# Altium schematic symbol library 5227222-3.SchLib: 1 symbol
Pins are listed as number, name and electrical type; pins without a type are passive.

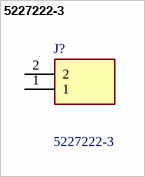
[diagram p0: symbol 5227222-3]

## 5227222-3
designator J?
Body Features: Body Material Finish Passivated | Body Plating Material Nickel | Body Material Polyester, PBT | Configuration Features: Number of Coaxial Contacts 1 | PCB Mount Orientation Vertical | Number of Positions 1 | Contact Features: RF Connector Center Contact Material Phosphor Bronze | RF Connector Center Contact Plating Thickness 889 MICIN | RF Connector Center Contact Underplating Material Nickel | RF Connector Center Contact Plating Material Gold | Dimensions: Profile Height from PCB 1.375 INCH; Manufacturer_Name: TE Connectivity; Geometry.Height: 35.57mm; Mouser Part Number: 571-5227222-3; Mouser Price/Stock: https://www.mouser.co.uk/ProductDetail/TE-Connectivity/5227222-3?qs=GSeC4G%252BEqEW87SYw9J0%252BtA%3D%3D; Manufacturer_Part_Number: 5227222-3; Datasheet Link: https://www.te.com/commerce/DocumentDelivery/DDEController?Action=srchrtrv&DocNm=1307191_BNC_Connectors&DocType=Catalog%20Section&DocLang=English&PartCntxt=5227222-3&DocFormat=pdf
footprint 52272223
pins: 1, 2